# EAGLE library part PJRAS4X2U01_X8PHONO (library NewSDR)
Switchcraft Octal Phono Jack
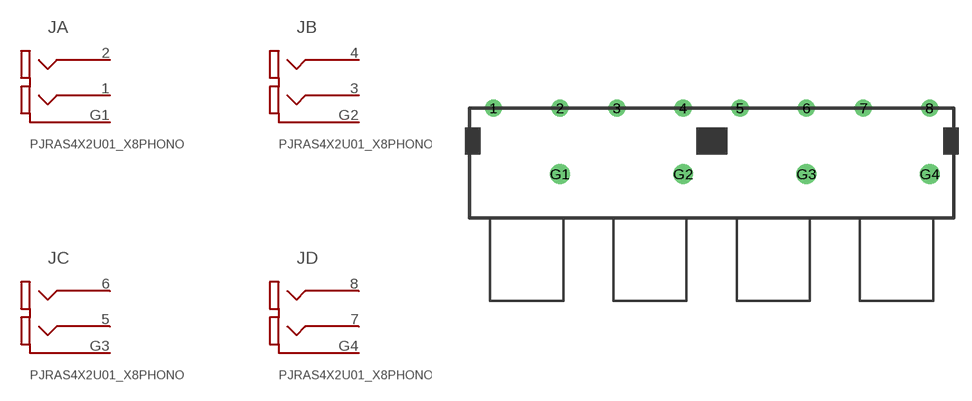
[diagram p126: symbol with the pads of OCTAL_PHONO; footprint OCTAL_PHONO]

Designator prefix J; gates A=DOUBLE_PHONO B=DOUBLE_PHONO C=DOUBLE_PHONO D=DOUBLE_PHONO

## PJRAS4X2U01_X8PHONO  [OCTAL_PHONO]
1  A:B  pas
2  A:T  pas
3  B:B  pas
4  B:T  pas
5  C:B  pas
6  C:T  pas
7  D:B  pas
8  D:T  pas
G1  A:G  pas
G2  B:G  pas
G3  C:G  pas
G4  D:G  pas

## Footprint OCTAL_PHONO (pad centres in mm)
Double Phono Jack
drill 1.295: 1 -24.752,12.497; 2 -17.234,12.497; 3 -10.757,12.497; 4 -3.239,12.497; 5 3.239,12.497; 6 10.757,12.497; 7 17.234,12.497; 8 24.752,12.497
drill 1.499: G1 -17.234,5.004; G2 -3.239,5.004; G3 10.757,5.004; G4 24.752,5.004